# Altium schematic symbol library ICs - Interfaces.SchLib: 1 symbol
Pins are listed as number, name and electrical type; pins without a type are passive.

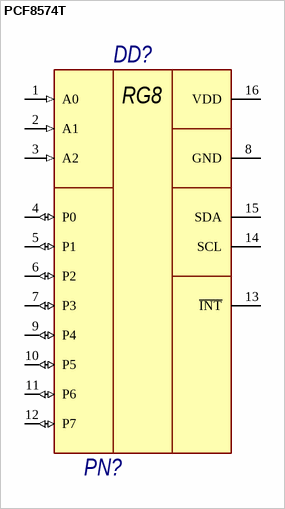
[diagram p0: symbol PCF8574T]

## PCF8574T
designator DD?  Part Number: PN?  (hidden comment: *)
pins: 1 A0 (in), 2 A1 (in), 3 A2 (in), 4 P0 (io), 5 P1 (io), 6 P2 (io), 7 P3 (io), 8 GND (power), 9 P4 (io), 10 P5 (io), 11 P6 (io), 12 P7 (io), 13 ~{INT}, 14 SCL, 15 SDA, 16 VDD (power)
text: RG8